# EAGLE library part CPL-CON-JST-2.0MM-7P-M-SMT-VRT (library TinWhiskers)
Connector: 2.0MM Pitch, 7-Pin, (JST: B7B-PH-SM4-TB(LF)(SN)); Package: SMT, Vertical' Datasheet: http://www.jst-mfg.com/product/detail_e.php?series=199
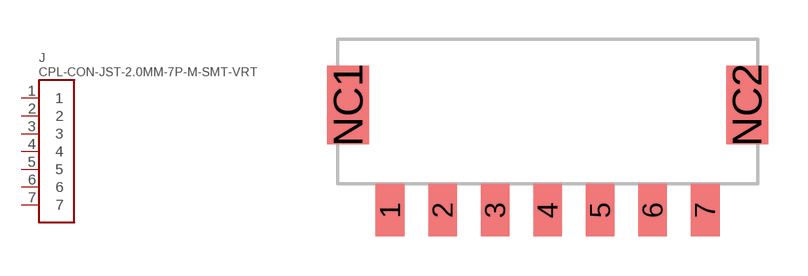
[diagram p47: symbol with the pads of CON-JST-PH-2.0MM-7P-SMT-VRT; footprint CON-JST-PH-2.0MM-7P-SMT-VRT]

Designator prefix J

## CPL-CON-JST-2.0MM-7P-M-SMT-VRT  [CON-JST-PH-2.0MM-7P-SMT-VRT]
1  1
2  2
3  3
4  4
5  5
6  6
7  7

## Footprint CON-JST-PH-2.0MM-7P-SMT-VRT (pad centres in mm)
Connector: 2.0MM Pitch, 7-Pin, (B7B-PH-SM4-TB(LF)(SN)); Package: SMT, Vertical; Datasheet: http://www.jst-mfg.com/product/pdf/eng/ePH.pdf
smd 1.1 x 2: 1 -6,0.1; 2 -4,0.1; 3 -2,0.1; 4 0,0.1; 5 2,0.1; 6 4,0.1; 7 6,0.1
smd 1.6 x 3: NC1 -7.6,4.1; NC2 7.6,4.1